# Altium footprint library usb.PcbLib: 1 footprints
Each footprint in its own frame and in the unit in brackets; x right, y up, seen from the top. Pads: shape width x height; smd on the part's side, far side on the other; paste and mask are expansions set on the pad; w line width, h text height; cw(c..) or ccw(c..) is an arc to the next point about the centre after c.
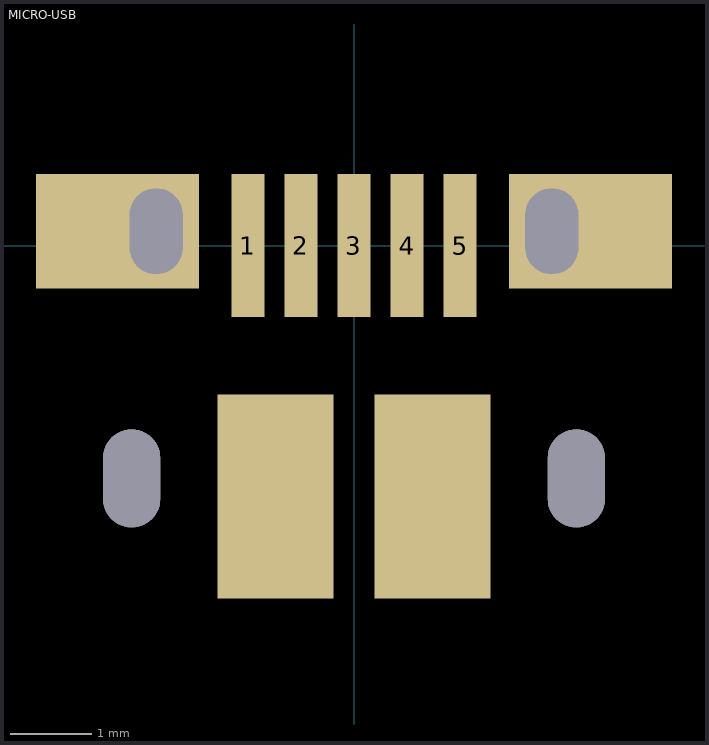
[diagram p0: the footprint, top view; thin cyan lines are the x and y axes]

## MICRO-USB [mm]
pads (11):
  rect 0.4x1.75 smd: 1(-1.3,0) 2(-0.65,0) 3(0,0) 4(0.65,0) 5(1.3,0)
  oval 0.7x1.2 hole 0.7 slot 1.2 at 90 deg unplated: ""(-2.725,-2.855) ""(2.725,-2.855)
  rect 2x1.4 hole 0.65 slot 1.05 at 90 deg unplated copper offset -0.475,0: ""(-2.425,0.175)
  rect 1.425x2.5 smd: ""(-0.963,-3.075) ""(0.962,-3.075)
  rect 2x1.4 hole 0.65 slot 1.05 at 90 deg unplated copper offset 0.475,0: ""(2.425,0.175)
Multi-Layer:
  region: 3.9,-1.475 3.375,-1.475 3.375,-3.925 2.075,-3.925 2.075,-0.775 3.9,-0.775
  region: -3.9,-1.475 -3.375,-1.475 -3.375,-3.925 -2.075,-3.925 -2.075,-0.775 -3.9,-0.775